# EAGLE library part OPAMP (library opamp-jqi)
Basic Op Amp. Be sure to check actual pinout of your device, and modify as necessary!
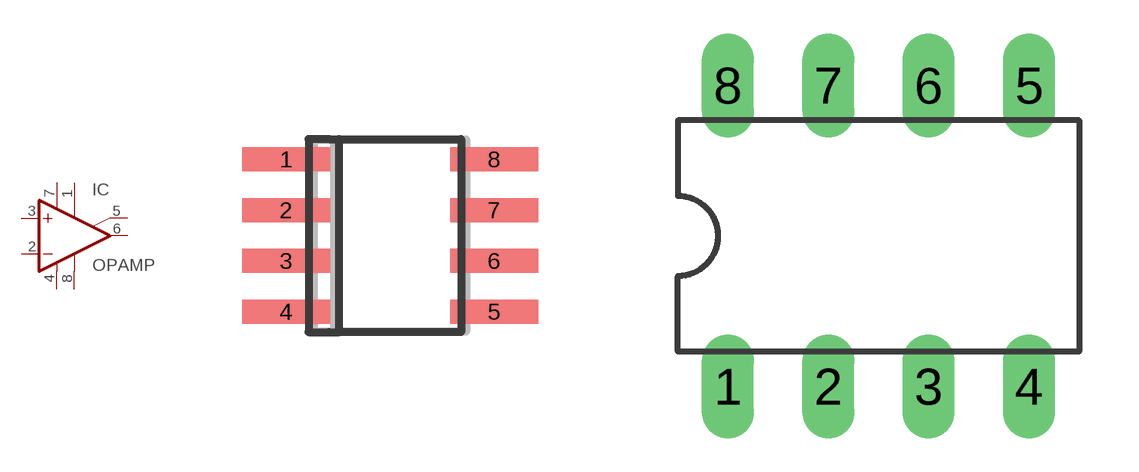
[diagram p0: symbol with the pads of SO08; footprints SO08, DIL08]

Designator prefix IC

## OPAMP-SO  [SO08]
1  ON1  pas
2  -IN  in
3  +IN  in
4  V-  pwr
5  ON2  pas
6  OUT  out
7  V+  pwr
8  OPT  pas

## OPAMP-DIP  [DIL08]
Pads as for SO08

## Footprint SO08 (pad centres in mm)
SO08 Package. body 3.9 mm/JEDEC MS-012AA
smd 2.2 x 0.6: 1 -2.6,1.27; 2 -2.6,0; 3 -2.6,-1.27; 4 -2.6,-2.54; 5 2.6,-2.54; 6 2.6,-1.27; 7 2.6,0; 8 2.6,1.27

## Footprint DIL08 (pad centres in mm)
Dual in-line package, 8 pins.
drill 0.813 long: 1 -3.81,-3.81; 2 -1.27,-3.81; 3 1.27,-3.81; 4 3.81,-3.81; 5 3.81,3.81; 6 1.27,3.81; 7 -1.27,3.81; 8 -3.81,3.81